# Altium integrated library Linear Technology Power Management LED Driver ICs.IntLib: 490 symbols (part 39 of 48)
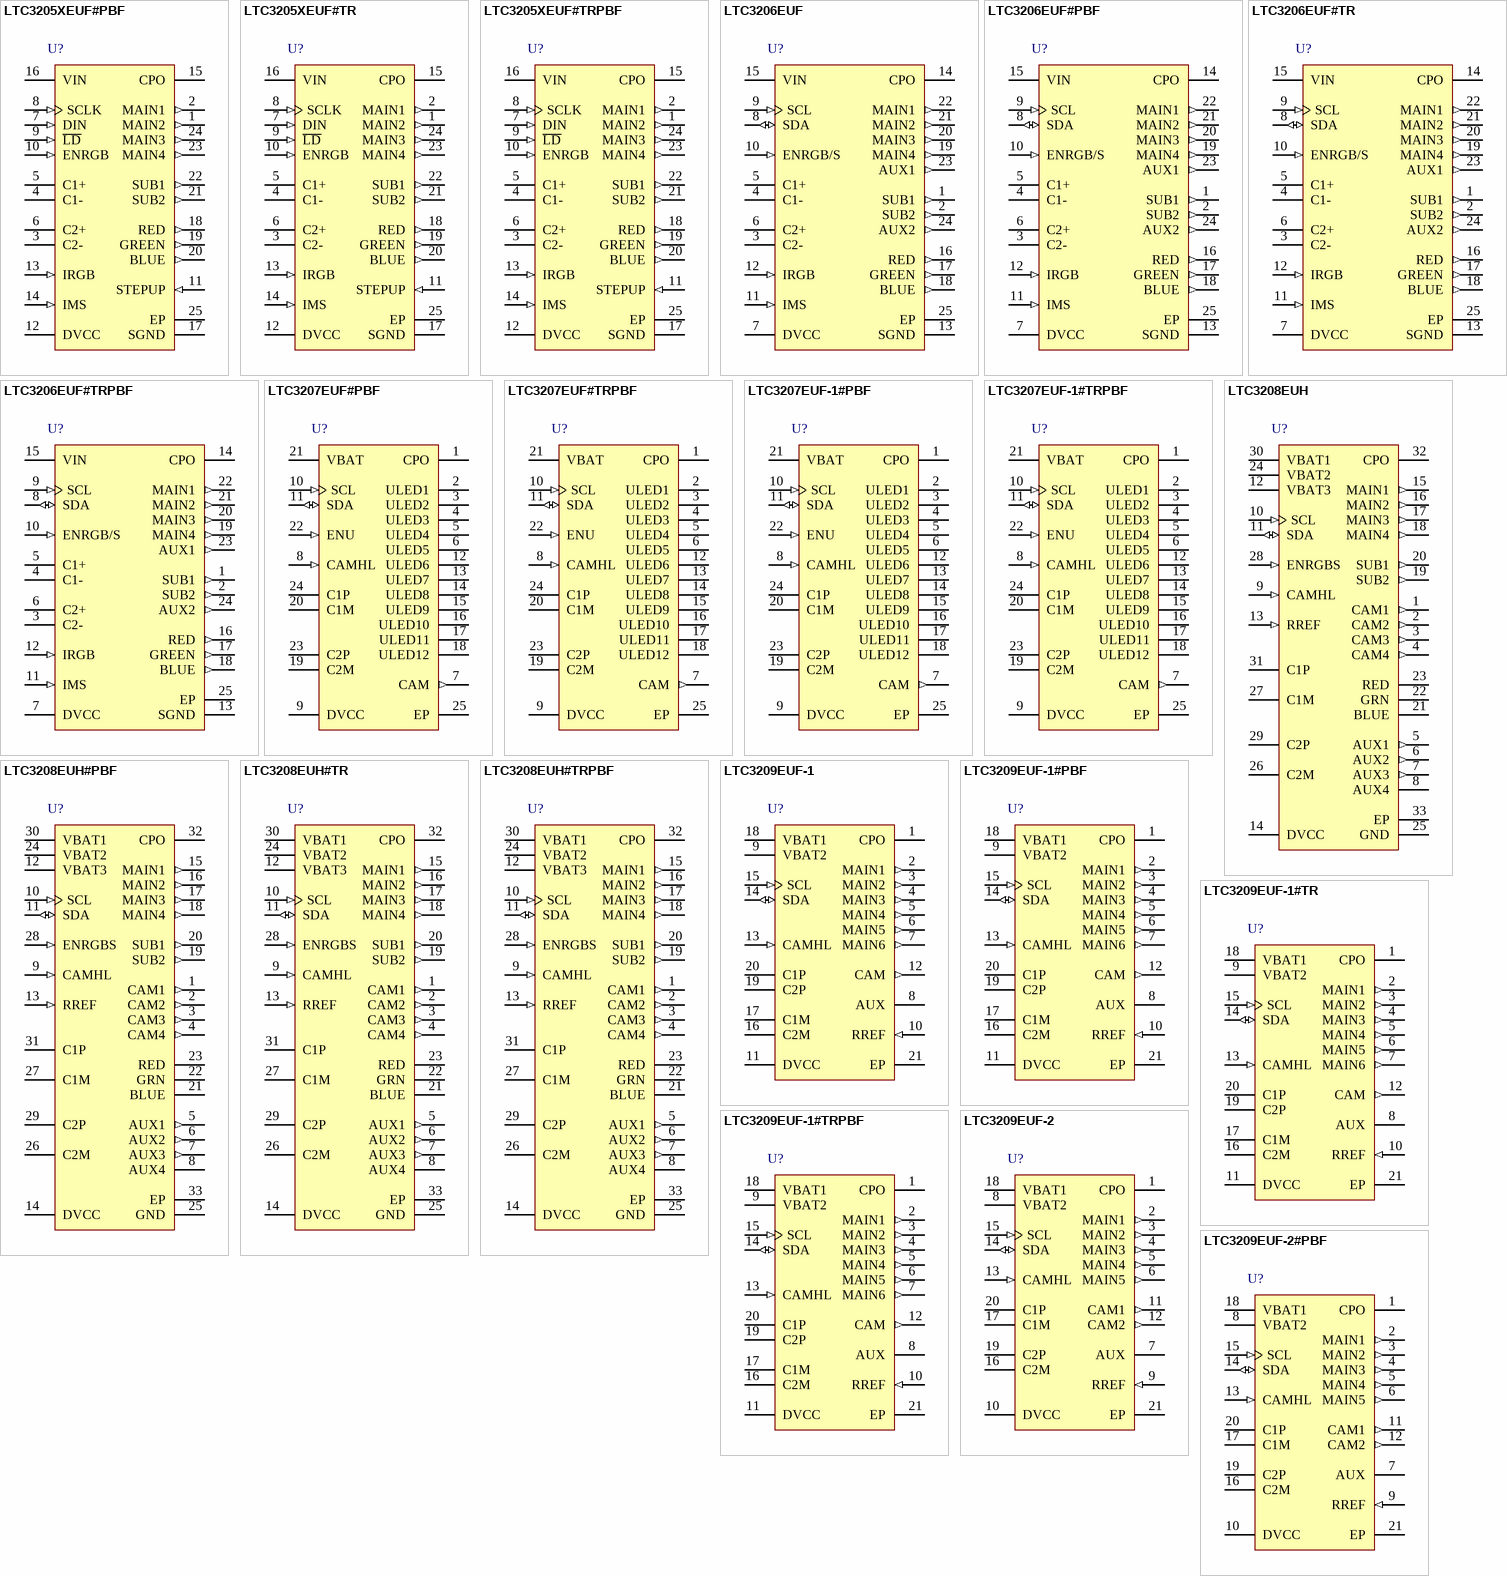
[diagram p58: symbols LTC3205XEUF#PBF to LTC3209EUF-2#PBF]

## LTC3206EUF#TR
designator U?
Drives 6 Main LEDs, 4 Sub Display, 1 RGB, 2.8 to 4.5 V Vin, 4.5 V Vout MAX, 24-pin QFN (UF-24), -40 to 85 degC, Tape and Reel; Manufacturer: Linear Technology; PartNumber: LTC3206EUF#TR; Topology: Charge Pump, LED Driver; Vin Min(V): 2.8; PackageVersion: Rev. B, 02/2012; PackageReference: UF24; PackageDescription: 24-Pin Plastic QFN, Body 4 x 4 mm, Pitch 0.5 mm; Supplier 1: Digi-Key; Supplier Part Number 1: LTC3206EUF#TR-ND; Packing: Tape and Reel; RoHS: FALSE; Mounting Technology: Surface Mount; Code_JEDEC: MO-220; ComponentLink1Description: Manufacturer URL; ComponentLink1URL: http://www.linear.com/; ComponentLink2Description: Datasheet; ComponentLink2URL: http://cds.linear.com/docs/en/datasheet/3206f.pdf; ComponentLink3Description: Package Specification; ComponentLink3URL: http://cds.linear.com/docs/en/packaging/%28UF24%29%20QFN%2005-08-1697%20Rev%20B.pdf
footprint LT-UF-24_N (QFN, 24-Leads, Body 4.1x4.1mm, Pitch 0.5mm, Thermal Pad 2.45x2.45mm, IPC Medium Density)
footprint LT-UF-24_L (QFN, 24-Leads, Body 4.1x4.1mm, Pitch 0.5mm, Thermal Pad 2.45x2.45mm, IPC High Density)
footprint LT-UF-24_M (QFN, 24-Leads, Body 4.1x4.1mm, Pitch 0.5mm, Thermal Pad 2.45x2.45mm, IPC Low Density)
pins: 1 SUB1 (out) "Current Source Outputs for the SUB Display White LEDs. The current for the SUB display is controlled by the resistor on the IMS pin.The LEDs on the SUB display can be set to exponentially increasing brightness levels from 0.(See Datasheet)", 2 SUB2 (out) "Current Source Outputs for the SUB Display White LEDs. The current for the SUB display is controlled by the resistor on the IMS pin.The LEDs on the SUB display can be set to exponentially increasing brightness levels from 0.(See Datasheet)", 3 C2- "Charge Pump Flying Capacitor Pins. A 2.2uF X7R or X5R ceramic capacitor should be connected from C1+ to C1- and another from C2+ to C2-.", 4 C1- "Charge Pump Flying Capacitor Pins. A 2.2uF X7R or X5R ceramic capacitor should be connected from C1+ to C1- and another from C2+ to C2-.", 5 C1+ "Charge Pump Flying Capacitor Pins. A 2.2uF X7R or X5R ceramic capacitor should be connected from C1+ to C1- and another from C2+ to C2-.", 6 C2+ "Charge Pump Flying Capacitor Pins. A 2.2uF X7R or X5R ceramic capacitor should be connected from C1+ to C1- and another from C2+ to C2-.", 7 DVCC (power) "This pin sets the logic reference level of the SDA, SCL and ENRGB/S pins.", 8 SDA (io) "Input Data for the I2C Serial Port. Serial data is shifted in one bit per clock to control the LTC3206 (see Figures 3 and 4). The logic level for SDA is referenced to DVCC.", 9 SCL (in) "Clock Input for the I2C Serial Port (see Figures 3 and 4). The logic level for SCL is referenced to DVCC.", 10 ENRGB/S (in) "This pin is used to enable and disable either the RED, GREEN and BLUE current sources or the SUB display depending on which is programmed to respond via the I2C port. Once ENRGB/S is brought high, the LTC3206 illuminates the (See Datasheet)", 11 IMS (in) "This pin controls the maximum amount of LED current in both the MAIN and SUB LED displays. The IMS pin servos to 0.6V when there is a resistor to ground. The full scale (100%) currents in the MAIN and SUB display LEDs will (See Datasheet)", 12 IRGB (in) "This pin controls the amount of LED current at the RED, GREEN and BLUE LED pins. The IRGB pin servos to 0.6V when there is a resistor to ground. The current in the RED, GREEN and BLUE LEDs will be 400 times the current at (See Datasheet)", 13 SGND (power) "Ground for the control logic. This pin should be connected directly to a low impedance ground plane.", 14 CPO (power) "Output of the Charge Pump. This output should be used to power white, blue and "ture" green LEDs. Red LEDs can be powered from VIN or CPO. An X5R or X7R low impedance (ceramic) 2.2uF charge storage capacitor is requi(See Datasheet)", 15 VIN (power) "Supply Voltage for the Charge Pump. The VIN pin should be connected directly to the battery and bypassed with a 2.2uF X5R or X7R ceramic capacitor.", 16 RED (out) "Current Source Outputs for the RGB Illuminator LEDs. The currents for the RGB LEDs are controlled by the resistor on the IRGB pin. The RGB LEDs can independently be set to any duty cycle from 0/15 through 15/15 under (See Datasheet)", 17 GREEN (out) "Current Source Outputs for the RGB Illuminator LEDs. The currents for the RGB LEDs are controlled by the resistor on the IRGB pin. The RGB LEDs can independently be set to any duty cycle from 0/15 through 15/15 under (See Datasheet)", 18 BLUE (out) "Current Source Outputs for the RGB Illuminator LEDs. The currents for the RGB LEDs are controlled by the resistor on the IRGB pin. The RGB LEDs can independently be set to any duty cycle from 0/15 through 15/15 under (See Datasheet)", 19 MAIN4 (out) "Current Source Outputs for the Main Display White LEDs. The current for the main display is controlled by the resistor on the IMS pin. The LEDs on the MAIN display can be set to 16 exponentially increasing brightness steps (See Datasheet)", 20 MAIN3 (out) "Current Source Outputs for the Main Display White LEDs. The current for the main display is controlled by the resistor on the IMS pin. The LEDs on the MAIN display can be set to 16 exponentially increasing brightness steps (See Datasheet)", 21 MAIN2 (out) "Current Source Outputs for the Main Display White LEDs. The current for the main display is controlled by the resistor on the IMS pin. The LEDs on the MAIN display can be set to 16 exponentially increasing brightness steps (See Datasheet)", 22 MAIN1 (out) "Current Source Outputs for the Main Display White LEDs. The current for the main display is controlled by the resistor on the IMS pin. The LEDs on the MAIN display can be set to 16 exponentially increasing brightness steps (See Datasheet)", 23 AUX1 (out) "Current source outputs for the auxiliary white LEDs. The auxiliary current sources can be individually assigned to be either MAIN display or SUB display LEDs via the I2C serial port. When either AUX1 and/ or AUX2 are (See Datasheet)", 24 AUX2 (out) "Current source outputs for the auxiliary white LEDs. The auxiliary current sources can be individually assigned to be either MAIN display or SUB display LEDs via the I2C serial port. When either AUX1 and/ or AUX2 are (See Datasheet)", 25 EP (power) "Power Ground for the Charge Pump. This pin should be connected directly to a low impedance ground plane."

## LTC3206EUF#TRPBF
designator U?
Drives 6 Main LEDs, 4 Sub Display, 1 RGB, 2.8 to 4.5 V Vin, 4.5 V Vout MAX, 24-pin QFN (UF-24), -40 to 85 degC, Pb-Free, Tape and Reel; Manufacturer: Linear Technology; PartNumber: LTC3206EUF#TRPBF; Topology: Charge Pump, LED Driver; Vin Min(V): 2.8; PackageVersion: Rev. B, 02/2012; PackageReference: UF24; PackageDescription: 24-Pin Plastic QFN, Body 4 x 4 mm, Pitch 0.5 mm; Supplier 1: Digi-Key; Supplier Part Number 1: LTC3206EUF#TRPBF-ND; Packing: Tape and Reel; RoHS: TRUE; Mounting Technology: Surface Mount; Code_JEDEC: MO-220; ComponentLink1Description: Manufacturer URL; ComponentLink1URL: http://www.linear.com/; ComponentLink2Description: Datasheet; ComponentLink2URL: http://cds.linear.com/docs/en/datasheet/3206f.pdf; ComponentLink3Description: Package Specification; ComponentLink3URL: http://cds.linear.com/docs/en/packaging/%28UF24%29%20QFN%2005-08-1697%20Rev%20B.pdf
footprint LT-UF-24_N (QFN, 24-Leads, Body 4.1x4.1mm, Pitch 0.5mm, Thermal Pad 2.45x2.45mm, IPC Medium Density)
footprint LT-UF-24_L (QFN, 24-Leads, Body 4.1x4.1mm, Pitch 0.5mm, Thermal Pad 2.45x2.45mm, IPC High Density)
footprint LT-UF-24_M (QFN, 24-Leads, Body 4.1x4.1mm, Pitch 0.5mm, Thermal Pad 2.45x2.45mm, IPC Low Density)
pins: 1 SUB1 (out) "Current Source Outputs for the SUB Display White LEDs. The current for the SUB display is controlled by the resistor on the IMS pin.The LEDs on the SUB display can be set to exponentially increasing brightness levels from 0.(See Datasheet)", 2 SUB2 (out) "Current Source Outputs for the SUB Display White LEDs. The current for the SUB display is controlled by the resistor on the IMS pin.The LEDs on the SUB display can be set to exponentially increasing brightness levels from 0.(See Datasheet)", 3 C2- "Charge Pump Flying Capacitor Pins. A 2.2uF X7R or X5R ceramic capacitor should be connected from C1+ to C1- and another from C2+ to C2-.", 4 C1- "Charge Pump Flying Capacitor Pins. A 2.2uF X7R or X5R ceramic capacitor should be connected from C1+ to C1- and another from C2+ to C2-.", 5 C1+ "Charge Pump Flying Capacitor Pins. A 2.2uF X7R or X5R ceramic capacitor should be connected from C1+ to C1- and another from C2+ to C2-.", 6 C2+ "Charge Pump Flying Capacitor Pins. A 2.2uF X7R or X5R ceramic capacitor should be connected from C1+ to C1- and another from C2+ to C2-.", 7 DVCC (power) "This pin sets the logic reference level of the SDA, SCL and ENRGB/S pins.", 8 SDA (io) "Input Data for the I2C Serial Port. Serial data is shifted in one bit per clock to control the LTC3206 (see Figures 3 and 4). The logic level for SDA is referenced to DVCC.", 9 SCL (in) "Clock Input for the I2C Serial Port (see Figures 3 and 4). The logic level for SCL is referenced to DVCC.", 10 ENRGB/S (in) "This pin is used to enable and disable either the RED, GREEN and BLUE current sources or the SUB display depending on which is programmed to respond via the I2C port. Once ENRGB/S is brought high, the LTC3206 illuminates the (See Datasheet)", 11 IMS (in) "This pin controls the maximum amount of LED current in both the MAIN and SUB LED displays. The IMS pin servos to 0.6V when there is a resistor to ground. The full scale (100%) currents in the MAIN and SUB display LEDs will (See Datasheet)", 12 IRGB (in) "This pin controls the amount of LED current at the RED, GREEN and BLUE LED pins. The IRGB pin servos to 0.6V when there is a resistor to ground. The current in the RED, GREEN and BLUE LEDs will be 400 times the current at (See Datasheet)", 13 SGND (power) "Ground for the control logic. This pin should be connected directly to a low impedance ground plane.", 14 CPO (power) "Output of the Charge Pump. This output should be used to power white, blue and "ture" green LEDs. Red LEDs can be powered from VIN or CPO. An X5R or X7R low impedance (ceramic) 2.2uF charge storage capacitor is requi(See Datasheet)", 15 VIN (power) "Supply Voltage for the Charge Pump. The VIN pin should be connected directly to the battery and bypassed with a 2.2uF X5R or X7R ceramic capacitor.", 16 RED (out) "Current Source Outputs for the RGB Illuminator LEDs. The currents for the RGB LEDs are controlled by the resistor on the IRGB pin. The RGB LEDs can independently be set to any duty cycle from 0/15 through 15/15 under (See Datasheet)", 17 GREEN (out) "Current Source Outputs for the RGB Illuminator LEDs. The currents for the RGB LEDs are controlled by the resistor on the IRGB pin. The RGB LEDs can independently be set to any duty cycle from 0/15 through 15/15 under (See Datasheet)", 18 BLUE (out) "Current Source Outputs for the RGB Illuminator LEDs. The currents for the RGB LEDs are controlled by the resistor on the IRGB pin. The RGB LEDs can independently be set to any duty cycle from 0/15 through 15/15 under (See Datasheet)", 19 MAIN4 (out) "Current Source Outputs for the Main Display White LEDs. The current for the main display is controlled by the resistor on the IMS pin. The LEDs on the MAIN display can be set to 16 exponentially increasing brightness steps (See Datasheet)", 20 MAIN3 (out) "Current Source Outputs for the Main Display White LEDs. The current for the main display is controlled by the resistor on the IMS pin. The LEDs on the MAIN display can be set to 16 exponentially increasing brightness steps (See Datasheet)", 21 MAIN2 (out) "Current Source Outputs for the Main Display White LEDs. The current for the main display is controlled by the resistor on the IMS pin. The LEDs on the MAIN display can be set to 16 exponentially increasing brightness steps (See Datasheet)", 22 MAIN1 (out) "Current Source Outputs for the Main Display White LEDs. The current for the main display is controlled by the resistor on the IMS pin. The LEDs on the MAIN display can be set to 16 exponentially increasing brightness steps (See Datasheet)", 23 AUX1 (out) "Current source outputs for the auxiliary white LEDs. The auxiliary current sources can be individually assigned to be either MAIN display or SUB display LEDs via the I2C serial port. When either AUX1 and/ or AUX2 are (See Datasheet)", 24 AUX2 (out) "Current source outputs for the auxiliary white LEDs. The auxiliary current sources can be individually assigned to be either MAIN display or SUB display LEDs via the I2C serial port. When either AUX1 and/ or AUX2 are (See Datasheet)", 25 EP (power) "Power Ground for the Charge Pump. This pin should be connected directly to a low impedance ground plane."

## LTC3207EUF#PBF
designator U?
600 mA Universal Multi-Output LED / CAM Driver, 2.9 to 5.5 V Vin, 4.5 V Vout MAX, 24-pin QFN (UF-24), -40 to 85 degC, Pb-Free; Manufacturer: Linear Technology; PartNumber: LTC3207EUF#PBF; Topology: Charge Pump, LED Driver; Vin Min(V): 2.9; DatasheetVersion: Rev. C; PackageVersion: Rev. B, 02/2012; PackageReference: UF24; PackageDescription: 24-Pin Plastic QFN, Body 4 x 4 mm, Pitch 0.5 mm; Supplier 1: Digi-Key; Supplier Part Number 1: LTC3207EUF#PBF-ND; Supplier 2: Newark; Supplier Part Number 2: 56M7382; RoHS: TRUE; Mounting Technology: Surface Mount; Code_JEDEC: MO-220; ComponentLink1Description: Manufacturer URL; ComponentLink1URL: http://www.linear.com/; ComponentLink2Description: Datasheet; ComponentLink2URL: http://cds.linear.com/docs/en/datasheet/3207fc.pdf; ComponentLink3Description: Package Specification; ComponentLink3URL: http://cds.linear.com/docs/en/packaging/%28UF24%29%20QFN%2005-08-1697%20Rev%20B.pdf
footprint LT-UF-24_N (QFN, 24-Leads, Body 4.1x4.1mm, Pitch 0.5mm, Thermal Pad 2.45x2.45mm, IPC Medium Density)
footprint LT-UF-24_L (QFN, 24-Leads, Body 4.1x4.1mm, Pitch 0.5mm, Thermal Pad 2.45x2.45mm, IPC High Density)
footprint LT-UF-24_M (QFN, 24-Leads, Body 4.1x4.1mm, Pitch 0.5mm, Thermal Pad 2.45x2.45mm, IPC Low Density)
pins: 1 CPO (power) "Output of the Charge Pump. Used to power all LEDs. A 4.7uF X5R or X7R ceramic capacitor should  be connected to ground.", 2 ULED1 (oc) "Current Source Outputs for Driving LEDs. The LED current can be set from 0mA to 27.5mA in 64 steps via software control and internal 6-bit linear DAC. Each output can be disabled by setting the associated data register REG1 (See Datasheet)", 3 ULED2 (oc) "Current Source Outputs for Driving LEDs. The LED current can be set from 0mA to 27.5mA in 64 steps via software control and internal 6-bit linear DAC. Each output can be disabled by setting the associated data register REG1 (See Datasheet)", 4 ULED3 (oc) "Current Source Outputs for Driving LEDs. The LED current can be set from 0mA to 27.5mA in 64 steps via software control and internal 6-bit linear DAC. Each output can be disabled by setting the associated data register REG1 (See Datasheet)", 5 ULED4 (oc) "Current Source Outputs for Driving LEDs. The LED current can be set from 0mA to 27.5mA in 64 steps via software control and internal 6-bit linear DAC. Each output can be disabled by setting the associated data register REG1 (See Datasheet)", 6 ULED5 (oc) "Current Source Outputs for Driving LEDs. The LED current can be set from 0mA to 27.5mA in 64 steps via software control and internal 6-bit linear DAC. Each output can be disabled by setting the associated data register REG1 (See Datasheet)", 7 CAM (out) "Current Source Output for the CAM Display White LED. The LED on the CAM display can be set from 0mA to 425mA in 16 steps via software control and internal 4-bit linear DAC. Two 4-bit registers are available. One is used to (See Datasheet)", 8 CAMHL (in) "Selects CAM high register when asserted high and CAM low register when low. The high to low transition automatically resets the charge pump mode to 1x. The logic level for CAMHL is referenced to DVCC. If unused, the pin (See Datasheet)", 9 DVCC (power) "Supply Voltage for All Digital I/O Lines. This pin sets the logic reference level of the device. DVCC will reset the data registers when set below the undervoltage lockout threshold which is the recommended method for (See Datasheet)", 10 SCL (in) "I2C Clock Input. The logic-level for SCL is referenced to DVCC.", 11 SDA (io) "Input Data for the Serial Port. Serial data is shifted in one bit per clock to control the device. The logic-level is referenced to DVCC.", 12 ULED6 (oc) "Current Source Outputs for Driving LEDs. The LED current can be set from 0mA to 27.5mA in 64 steps via software control and internal 6-bit linear DAC. Each output can be disabled by setting the associated data register REG1 (See Datasheet)", 13 ULED7 (oc) "Current Source Outputs for Driving LEDs. The LED current can be set from 0mA to 27.5mA in 64 steps via software control and internal 6-bit linear DAC. Each output can be disabled by setting the associated data register REG1 (See Datasheet)", 14 ULED8 (oc) "Current Source Outputs for Driving LEDs. The LED current can be set from 0mA to 27.5mA in 64 steps via software control and internal 6-bit linear DAC. Each output can be disabled by setting the associated data register REG1 (See Datasheet)", 15 ULED9 (oc) "Current Source Outputs for Driving LEDs. The LED current can be set from 0mA to 27.5mA in 64 steps via software control and internal 6-bit linear DAC. Each output can be disabled by setting the associated data register REG1 (See Datasheet)", 16 ULED10 (oc) "Current Source Outputs for Driving LEDs. The LED current can be set from 0mA to 27.5mA in 64 steps via software control and internal 6-bit linear DAC. Each output can be disabled by setting the associated data register REG1 (See Datasheet)", 17 ULED11 (oc) "Current Source Outputs for Driving LEDs. The LED current can be set from 0mA to 27.5mA in 64 steps via software control and internal 6-bit linear DAC. Each output can be disabled by setting the associated data register REG1 (See Datasheet)", 18 ULED12 (oc) "Current Source Outputs for Driving LEDs. The LED current can be set from 0mA to 27.5mA in 64 steps via software control and internal 6-bit linear DAC. Each output can be disabled by setting the associated data register REG1 (See Datasheet)", 19 C2M "Charge Pump Flying Capacitor Pins. A 2.2uF X7R or X5R ceramic capacitor should be connected from C1P to C1M and C2P to C2M.", 20 C1M "Charge Pump Flying Capacitor Pins. A 2.2uF X7R or X5R ceramic capacitor should be connected from C1P to C1M and C2P to C2M.", 21 VBAT (power) "Supply Voltage for the Entire Device. This pin must be bypassed with a single 2.2uF low ESR ceramic capacitor.", 22 ENU (in) "Input. Used to enable or disable the preselected ULED outputs. When the pin is toggled from low (disable) to high (enable), the device illuminates the preselected LEDs. When ENU is controlling selected outputs and other (See Datasheet)", 23 C2P "Charge Pump Flying Capacitor Pins. A 2.2uF X7R or X5R ceramic capacitor should be connected from C1P to C1M and C2P to C2M.", 24 C1P "Charge Pump Flying Capacitor Pins. A 2.2uF X7R or X5R ceramic capacitor should be connected from C1P to C1M and C2P to C2M.", 25 EP (power) "Ground. The Exposed Pad must be soldered to PCB ground."

## LTC3207EUF#TRPBF
designator U?
600 mA Universal Multi-Output LED / CAM Driver, 2.9 to 5.5 V Vin, 4.5 V Vout MAX, 24-pin QFN (UF-24), -40 to 85 degC, Pb-Free, Tape and Reel; Manufacturer: Linear Technology; PartNumber: LTC3207EUF#TRPBF; Topology: Charge Pump, LED Driver; Vin Min(V): 2.9; DatasheetVersion: Rev. C; PackageVersion: Rev. B, 02/2012; PackageReference: UF24; PackageDescription: 24-Pin Plastic QFN, Body 4 x 4 mm, Pitch 0.5 mm; Supplier 1: Digi-Key; Supplier Part Number 1: LTC3207EUF#TRPBF-ND; Supplier 2: Newark; Supplier Part Number 2: 56M7383; Packing: Tape and Reel; RoHS: TRUE; Mounting Technology: Surface Mount; Code_JEDEC: MO-220; ComponentLink1Description: Manufacturer URL; ComponentLink1URL: http://www.linear.com/; ComponentLink2Description: Datasheet; ComponentLink2URL: http://cds.linear.com/docs/en/datasheet/3207fc.pdf; ComponentLink3Description: Package Specification; ComponentLink3URL: http://cds.linear.com/docs/en/packaging/%28UF24%29%20QFN%2005-08-1697%20Rev%20B.pdf
footprint LT-UF-24_N (QFN, 24-Leads, Body 4.1x4.1mm, Pitch 0.5mm, Thermal Pad 2.45x2.45mm, IPC Medium Density)
footprint LT-UF-24_L (QFN, 24-Leads, Body 4.1x4.1mm, Pitch 0.5mm, Thermal Pad 2.45x2.45mm, IPC High Density)
footprint LT-UF-24_M (QFN, 24-Leads, Body 4.1x4.1mm, Pitch 0.5mm, Thermal Pad 2.45x2.45mm, IPC Low Density)
pins: 1 CPO (power) "Output of the Charge Pump. Used to power all LEDs. A 4.7uF X5R or X7R ceramic capacitor should  be connected to ground.", 2 ULED1 (oc) "Current Source Outputs for Driving LEDs. The LED current can be set from 0mA to 27.5mA in 64 steps via software control and internal 6-bit linear DAC. Each output can be disabled by setting the associated data register REG1 (See Datasheet)", 3 ULED2 (oc) "Current Source Outputs for Driving LEDs. The LED current can be set from 0mA to 27.5mA in 64 steps via software control and internal 6-bit linear DAC. Each output can be disabled by setting the associated data register REG1 (See Datasheet)", 4 ULED3 (oc) "Current Source Outputs for Driving LEDs. The LED current can be set from 0mA to 27.5mA in 64 steps via software control and internal 6-bit linear DAC. Each output can be disabled by setting the associated data register REG1 (See Datasheet)", 5 ULED4 (oc) "Current Source Outputs for Driving LEDs. The LED current can be set from 0mA to 27.5mA in 64 steps via software control and internal 6-bit linear DAC. Each output can be disabled by setting the associated data register REG1 (See Datasheet)", 6 ULED5 (oc) "Current Source Outputs for Driving LEDs. The LED current can be set from 0mA to 27.5mA in 64 steps via software control and internal 6-bit linear DAC. Each output can be disabled by setting the associated data register REG1 (See Datasheet)", 7 CAM (out) "Current Source Output for the CAM Display White LED. The LED on the CAM display can be set from 0mA to 425mA in 16 steps via software control and internal 4-bit linear DAC. Two 4-bit registers are available. One is used to (See Datasheet)", 8 CAMHL (in) "Selects CAM high register when asserted high and CAM low register when low. The high to low transition automatically resets the charge pump mode to 1x. The logic level for CAMHL is referenced to DVCC. If unused, the pin (See Datasheet)", 9 DVCC (power) "Supply Voltage for All Digital I/O Lines. This pin sets the logic reference level of the device. DVCC will reset the data registers when set below the undervoltage lockout threshold which is the recommended method for (See Datasheet)", 10 SCL (in) "I2C Clock Input. The logic-level for SCL is referenced to DVCC.", 11 SDA (io) "Input Data for the Serial Port. Serial data is shifted in one bit per clock to control the device. The logic-level is referenced to DVCC.", 12 ULED6 (oc) "Current Source Outputs for Driving LEDs. The LED current can be set from 0mA to 27.5mA in 64 steps via software control and internal 6-bit linear DAC. Each output can be disabled by setting the associated data register REG1 (See Datasheet)", 13 ULED7 (oc) "Current Source Outputs for Driving LEDs. The LED current can be set from 0mA to 27.5mA in 64 steps via software control and internal 6-bit linear DAC. Each output can be disabled by setting the associated data register REG1 (See Datasheet)", 14 ULED8 (oc) "Current Source Outputs for Driving LEDs. The LED current can be set from 0mA to 27.5mA in 64 steps via software control and internal 6-bit linear DAC. Each output can be disabled by setting the associated data register REG1 (See Datasheet)", 15 ULED9 (oc) "Current Source Outputs for Driving LEDs. The LED current can be set from 0mA to 27.5mA in 64 steps via software control and internal 6-bit linear DAC. Each output can be disabled by setting the associated data register REG1 (See Datasheet)", 16 ULED10 (oc) "Current Source Outputs for Driving LEDs. The LED current can be set from 0mA to 27.5mA in 64 steps via software control and internal 6-bit linear DAC. Each output can be disabled by setting the associated data register REG1 (See Datasheet)", 17 ULED11 (oc) "Current Source Outputs for Driving LEDs. The LED current can be set from 0mA to 27.5mA in 64 steps via software control and internal 6-bit linear DAC. Each output can be disabled by setting the associated data register REG1 (See Datasheet)", 18 ULED12 (oc) "Current Source Outputs for Driving LEDs. The LED current can be set from 0mA to 27.5mA in 64 steps via software control and internal 6-bit linear DAC. Each output can be disabled by setting the associated data register REG1 (See Datasheet)", 19 C2M "Charge Pump Flying Capacitor Pins. A 2.2uF X7R or X5R ceramic capacitor should be connected from C1P to C1M and C2P to C2M.", 20 C1M "Charge Pump Flying Capacitor Pins. A 2.2uF X7R or X5R ceramic capacitor should be connected from C1P to C1M and C2P to C2M.", 21 VBAT (power) "Supply Voltage for the Entire Device. This pin must be bypassed with a single 2.2uF low ESR ceramic capacitor.", 22 ENU (in) "Input. Used to enable or disable the preselected ULED outputs. When the pin is toggled from low (disable) to high (enable), the device illuminates the preselected LEDs. When ENU is controlling selected outputs and other (See Datasheet)", 23 C2P "Charge Pump Flying Capacitor Pins. A 2.2uF X7R or X5R ceramic capacitor should be connected from C1P to C1M and C2P to C2M.", 24 C1P "Charge Pump Flying Capacitor Pins. A 2.2uF X7R or X5R ceramic capacitor should be connected from C1P to C1M and C2P to C2M.", 25 EP (power) "Ground. The Exposed Pad must be soldered to PCB ground."

## LTC3207EUF-1#PBF
designator U?
600 mA Universal Multi-Output LED / CAM Driver, 2.9 to 5.5 V Vin, 4.5 V Vout MAX, 24-pin QFN (UF-24), -40 to 85 degC, Pb-Free; Manufacturer: Linear Technology; PartNumber: LTC3207EUF-1#PBF; Topology: Charge Pump, LED Driver; Vin Min(V): 2.9; DatasheetVersion: Rev. C; PackageVersion: Rev. B, 02/2012; PackageReference: UF24; PackageDescription: 24-Pin Plastic QFN, Body 4 x 4 mm, Pitch 0.5 mm; Supplier 1: Digi-Key; Supplier Part Number 1: LTC3207EUF-1#PBF-ND; RoHS: TRUE; Mounting Technology: Surface Mount; Code_JEDEC: MO-220; ComponentLink1Description: Manufacturer URL; ComponentLink1URL: http://www.linear.com/; ComponentLink2Description: Datasheet; ComponentLink2URL: http://cds.linear.com/docs/en/datasheet/3207fc.pdf; ComponentLink3Description: Package Specification; ComponentLink3URL: http://cds.linear.com/docs/en/packaging/%28UF24%29%20QFN%2005-08-1697%20Rev%20B.pdf
footprint LT-UF-24_N (QFN, 24-Leads, Body 4.1x4.1mm, Pitch 0.5mm, Thermal Pad 2.45x2.45mm, IPC Medium Density)
footprint LT-UF-24_L (QFN, 24-Leads, Body 4.1x4.1mm, Pitch 0.5mm, Thermal Pad 2.45x2.45mm, IPC High Density)
footprint LT-UF-24_M (QFN, 24-Leads, Body 4.1x4.1mm, Pitch 0.5mm, Thermal Pad 2.45x2.45mm, IPC Low Density)
pins: 1 CPO (power) "Output of the Charge Pump. Used to power all LEDs. A 4.7uF X5R or X7R ceramic capacitor should  be connected to ground.", 2 ULED1 (oc) "Current Source Outputs for Driving LEDs. The LED current can be set from 0mA to 27.5mA in 64 steps via software control and internal 6-bit linear DAC. Each output can be disabled by setting the associated data register REG1 (See Datasheet)", 3 ULED2 (oc) "Current Source Outputs for Driving LEDs. The LED current can be set from 0mA to 27.5mA in 64 steps via software control and internal 6-bit linear DAC. Each output can be disabled by setting the associated data register REG1 (See Datasheet)", 4 ULED3 (oc) "Current Source Outputs for Driving LEDs. The LED current can be set from 0mA to 27.5mA in 64 steps via software control and internal 6-bit linear DAC. Each output can be disabled by setting the associated data register REG1 (See Datasheet)", 5 ULED4 (oc) "Current Source Outputs for Driving LEDs. The LED current can be set from 0mA to 27.5mA in 64 steps via software control and internal 6-bit linear DAC. Each output can be disabled by setting the associated data register REG1 (See Datasheet)", 6 ULED5 (oc) "Current Source Outputs for Driving LEDs. The LED current can be set from 0mA to 27.5mA in 64 steps via software control and internal 6-bit linear DAC. Each output can be disabled by setting the associated data register REG1 (See Datasheet)", 7 CAM (out) "Current Source Output for the CAM Display White LED. The LED on the CAM display can be set from 0mA to 425mA in 16 steps via software control and internal 4-bit linear DAC. Two 4-bit registers are available. One is used to (See Datasheet)", 8 CAMHL (in) "Selects CAM high register when asserted high and CAM low register when low. The high to low transition automatically resets the charge pump mode to 1x. The logic level for CAMHL is referenced to DVCC. If unused, the pin (See Datasheet)", 9 DVCC (power) "Supply Voltage for All Digital I/O Lines. This pin sets the logic reference level of the device. DVCC will reset the data registers when set below the undervoltage lockout threshold which is the recommended method for (See Datasheet)", 10 SCL (in) "I2C Clock Input. The logic-level for SCL is referenced to DVCC.", 11 SDA (io) "Input Data for the Serial Port. Serial data is shifted in one bit per clock to control the device. The logic-level is referenced to DVCC.", 12 ULED6 (oc) "Current Source Outputs for Driving LEDs. The LED current can be set from 0mA to 27.5mA in 64 steps via software control and internal 6-bit linear DAC. Each output can be disabled by setting the associated data register REG1 (See Datasheet)", 13 ULED7 (oc) "Current Source Outputs for Driving LEDs. The LED current can be set from 0mA to 27.5mA in 64 steps via software control and internal 6-bit linear DAC. Each output can be disabled by setting the associated data register REG1 (See Datasheet)", 14 ULED8 (oc) "Current Source Outputs for Driving LEDs. The LED current can be set from 0mA to 27.5mA in 64 steps via software control and internal 6-bit linear DAC. Each output can be disabled by setting the associated data register REG1 (See Datasheet)", 15 ULED9 (oc) "Current Source Outputs for Driving LEDs. The LED current can be set from 0mA to 27.5mA in 64 steps via software control and internal 6-bit linear DAC. Each output can be disabled by setting the associated data register REG1 (See Datasheet)", 16 ULED10 (oc) "Current Source Outputs for Driving LEDs. The LED current can be set from 0mA to 27.5mA in 64 steps via software control and internal 6-bit linear DAC. Each output can be disabled by setting the associated data register REG1 (See Datasheet)", 17 ULED11 (oc) "Current Source Outputs for Driving LEDs. The LED current can be set from 0mA to 27.5mA in 64 steps via software control and internal 6-bit linear DAC. Each output can be disabled by setting the associated data register REG1 (See Datasheet)", 18 ULED12 (oc) "Current Source Outputs for Driving LEDs. The LED current can be set from 0mA to 27.5mA in 64 steps via software control and internal 6-bit linear DAC. Each output can be disabled by setting the associated data register REG1 (See Datasheet)", 19 C2M "Charge Pump Flying Capacitor Pins. A 2.2uF X7R or X5R ceramic capacitor should be connected from C1P to C1M and C2P to C2M.", 20 C1M "Charge Pump Flying Capacitor Pins. A 2.2uF X7R or X5R ceramic capacitor should be connected from C1P to C1M and C2P to C2M.", 21 VBAT (power) "Supply Voltage for the Entire Device. This pin must be bypassed with a single 2.2uF low ESR ceramic capacitor.", 22 ENU (in) "Input. Used to enable or disable the preselected ULED outputs. When the pin is toggled from low (disable) to high (enable), the device illuminates the preselected LEDs. When ENU is controlling selected outputs and other (See Datasheet)", 23 C2P "Charge Pump Flying Capacitor Pins. A 2.2uF X7R or X5R ceramic capacitor should be connected from C1P to C1M and C2P to C2M.", 24 C1P "Charge Pump Flying Capacitor Pins. A 2.2uF X7R or X5R ceramic capacitor should be connected from C1P to C1M and C2P to C2M.", 25 EP (power) "Ground. The Exposed Pad must be soldered to PCB ground."

## LTC3207EUF-1#TRPBF
designator U?
600 mA Universal Multi-Output LED / CAM Driver, 2.9 to 5.5 V Vin, 4.5 V Vout MAX, 24-pin QFN (UF-24), -40 to 85 degC, Pb-Free, Tape and Reel; Manufacturer: Linear Technology; PartNumber: LTC3207EUF-1#TRPBF; Topology: Charge Pump, LED Driver; Vin Min(V): 2.9; DatasheetVersion: Rev. C; PackageVersion: Rev. B, 02/2012; PackageReference: UF24; PackageDescription: 24-Pin Plastic QFN, Body 4 x 4 mm, Pitch 0.5 mm; Supplier 1: Digi-Key; Supplier Part Number 1: LTC3207EUF-1#TRPBF-ND; Packing: Tape and Reel; RoHS: TRUE; Mounting Technology: Surface Mount; Code_JEDEC: MO-220; ComponentLink1Description: Manufacturer URL; ComponentLink1URL: http://www.linear.com/; ComponentLink2Description: Datasheet; ComponentLink2URL: http://cds.linear.com/docs/en/datasheet/3207fc.pdf; ComponentLink3Description: Package Specification; ComponentLink3URL: http://cds.linear.com/docs/en/packaging/%28UF24%29%20QFN%2005-08-1697%20Rev%20B.pdf
footprint LT-UF-24_N (QFN, 24-Leads, Body 4.1x4.1mm, Pitch 0.5mm, Thermal Pad 2.45x2.45mm, IPC Medium Density)
footprint LT-UF-24_L (QFN, 24-Leads, Body 4.1x4.1mm, Pitch 0.5mm, Thermal Pad 2.45x2.45mm, IPC High Density)
footprint LT-UF-24_M (QFN, 24-Leads, Body 4.1x4.1mm, Pitch 0.5mm, Thermal Pad 2.45x2.45mm, IPC Low Density)
pins: 1 CPO (power) "Output of the Charge Pump. Used to power all LEDs. A 4.7uF X5R or X7R ceramic capacitor should  be connected to ground.", 2 ULED1 (oc) "Current Source Outputs for Driving LEDs. The LED current can be set from 0mA to 27.5mA in 64 steps via software control and internal 6-bit linear DAC. Each output can be disabled by setting the associated data register REG1 (See Datasheet)", 3 ULED2 (oc) "Current Source Outputs for Driving LEDs. The LED current can be set from 0mA to 27.5mA in 64 steps via software control and internal 6-bit linear DAC. Each output can be disabled by setting the associated data register REG1 (See Datasheet)", 4 ULED3 (oc) "Current Source Outputs for Driving LEDs. The LED current can be set from 0mA to 27.5mA in 64 steps via software control and internal 6-bit linear DAC. Each output can be disabled by setting the associated data register REG1 (See Datasheet)", 5 ULED4 (oc) "Current Source Outputs for Driving LEDs. The LED current can be set from 0mA to 27.5mA in 64 steps via software control and internal 6-bit linear DAC. Each output can be disabled by setting the associated data register REG1 (See Datasheet)", 6 ULED5 (oc) "Current Source Outputs for Driving LEDs. The LED current can be set from 0mA to 27.5mA in 64 steps via software control and internal 6-bit linear DAC. Each output can be disabled by setting the associated data register REG1 (See Datasheet)", 7 CAM (out) "Current Source Output for the CAM Display White LED. The LED on the CAM display can be set from 0mA to 425mA in 16 steps via software control and internal 4-bit linear DAC. Two 4-bit registers are available. One is used to (See Datasheet)", 8 CAMHL (in) "Selects CAM high register when asserted high and CAM low register when low. The high to low transition automatically resets the charge pump mode to 1x. The logic level for CAMHL is referenced to DVCC. If unused, the pin (See Datasheet)", 9 DVCC (power) "Supply Voltage for All Digital I/O Lines. This pin sets the logic reference level of the device. DVCC will reset the data registers when set below the undervoltage lockout threshold which is the recommended method for (See Datasheet)", 10 SCL (in) "I2C Clock Input. The logic-level for SCL is referenced to DVCC.", 11 SDA (io) "Input Data for the Serial Port. Serial data is shifted in one bit per clock to control the device. The logic-level is referenced to DVCC.", 12 ULED6 (oc) "Current Source Outputs for Driving LEDs. The LED current can be set from 0mA to 27.5mA in 64 steps via software control and internal 6-bit linear DAC. Each output can be disabled by setting the associated data register REG1 (See Datasheet)", 13 ULED7 (oc) "Current Source Outputs for Driving LEDs. The LED current can be set from 0mA to 27.5mA in 64 steps via software control and internal 6-bit linear DAC. Each output can be disabled by setting the associated data register REG1 (See Datasheet)", 14 ULED8 (oc) "Current Source Outputs for Driving LEDs. The LED current can be set from 0mA to 27.5mA in 64 steps via software control and internal 6-bit linear DAC. Each output can be disabled by setting the associated data register REG1 (See Datasheet)", 15 ULED9 (oc) "Current Source Outputs for Driving LEDs. The LED current can be set from 0mA to 27.5mA in 64 steps via software control and internal 6-bit linear DAC. Each output can be disabled by setting the associated data register REG1 (See Datasheet)", 16 ULED10 (oc) "Current Source Outputs for Driving LEDs. The LED current can be set from 0mA to 27.5mA in 64 steps via software control and internal 6-bit linear DAC. Each output can be disabled by setting the associated data register REG1 (See Datasheet)", 17 ULED11 (oc) "Current Source Outputs for Driving LEDs. The LED current can be set from 0mA to 27.5mA in 64 steps via software control and internal 6-bit linear DAC. Each output can be disabled by setting the associated data register REG1 (See Datasheet)", 18 ULED12 (oc) "Current Source Outputs for Driving LEDs. The LED current can be set from 0mA to 27.5mA in 64 steps via software control and internal 6-bit linear DAC. Each output can be disabled by setting the associated data register REG1 (See Datasheet)", 19 C2M "Charge Pump Flying Capacitor Pins. A 2.2uF X7R or X5R ceramic capacitor should be connected from C1P to C1M and C2P to C2M.", 20 C1M "Charge Pump Flying Capacitor Pins. A 2.2uF X7R or X5R ceramic capacitor should be connected from C1P to C1M and C2P to C2M.", 21 VBAT (power) "Supply Voltage for the Entire Device. This pin must be bypassed with a single 2.2uF low ESR ceramic capacitor.", 22 ENU (in) "Input. Used to enable or disable the preselected ULED outputs. When the pin is toggled from low (disable) to high (enable), the device illuminates the preselected LEDs. When ENU is controlling selected outputs and other (See Datasheet)", 23 C2P "Charge Pump Flying Capacitor Pins. A 2.2uF X7R or X5R ceramic capacitor should be connected from C1P to C1M and C2P to C2M.", 24 C1P "Charge Pump Flying Capacitor Pins. A 2.2uF X7R or X5R ceramic capacitor should be connected from C1P to C1M and C2P to C2M.", 25 EP (power) "Ground. The Exposed Pad must be soldered to PCB ground."

## LTC3208EUH
designator U?
High Current Software Configurable Multidisplay LED Controller, 2.9 to 4.5 V Vin, 5 V Vout MAX, 32-pin QFN (UH-32), -40 to 85 degC; Manufacturer: Linear Technology; PartNumber: LTC3208EUH; Topology: Charge Pump, LED Driver; Vin Min(V): 2.9; DatasheetVersion: Rev. A; PackageVersion: Rev. D, 06/2010; PackageReference: UH-32; PackageDescription: 32-Pin Plastic QFN, Body 5 x 5 mm, Pitch 0.5 mm; RoHS: FALSE; Mounting Technology: Surface Mount; Code_JEDEC: MO-220; ComponentLink1Description: Manufacturer URL; ComponentLink1URL: http://www.linear.com/; ComponentLink2Description: Datasheet; ComponentLink2URL: http://cds.linear.com/docs/en/datasheet/3208fa.pdf; ComponentLink3Description: Package Specification; ComponentLink3URL: http://cds.linear.com/docs/en/packaging/QFN_32_05-08-1693.pdf
footprint LT-UH-32_N (QFN, 32-Leads, Body 5.1x5.1mm, Pitch 0.5mm, Thermal Pad 3.45X3.45mm, IPC Medium Density)
footprint LT-UH-32_L (QFN, 32-Leads, Body 5.1x5.1mm, Pitch 0.5mm, Thermal Pad 3.45X3.45mm, IPC High Density)
footprint LT-UH-32_M (QFN, 32-Leads, Body 5.1x5.1mm, Pitch 0.5mm, Thermal Pad 3.45X3.45mm, IPC Low Density)
pins: 1 CAM1 (out) "Current Source Output for the CAM Display White LED. The LEDs on the CAM display can be set from 0mA to 102mA in 16 steps via software control and internal 4-bit linear DAC. Two 4-bit registers are available. One is used to (See Datasheet)", 2 CAM2 (out) "Current Source Output for the CAM Display White LED. The LEDs on the CAM display can be set from 0mA to 102mA in 16 steps via software control and internal 4-bit linear DAC. Two 4-bit registers are available. One is used to (See Datasheet)", 3 CAM3 (out) "Current Source Output for the CAM Display White LED. The LEDs on the CAM display can be set from 0mA to 102mA in 16 steps via software control and internal 4-bit linear DAC. Two 4-bit registers are available. One is used to (See Datasheet)", 4 CAM4 (out) "Current Source Output for the CAM Display White LED. The LEDs on the CAM display can be set from 0mA to 102mA in 16 steps via software control and internal 4-bit linear DAC. Two 4-bit registers are available. One is used to (See Datasheet)", 5 AUX1 (out) "Current Source Output for the AUX Display White LED. When used as a separate display, the LED current sources of the AUX display can be set from 0mA to 26mA in 16 steps via software control and internal 4-bit linear DAC. In (See Datasheet)", 6 AUX2 (out) "Current Source Output for the AUX Display White LED. When used as a separate display, the LED current sources of the AUX display can be set from 0mA to 26mA in 16 steps via software control and internal 4-bit linear DAC. In (See Datasheet)", 7 AUX3 (out) "Current Source Output for the AUX Display White LED. When used as a separate display, the LED current sources of the AUX display can be set from 0mA to 26mA in 16 steps via software control and internal 4-bit linear DAC. In (See Datasheet)", 8 AUX4 (oc) "Current Source Output for the AUX Display White LED. When used as a separate display, the LED current sources of the AUX display can be set from 0mA to 26mA in 16 steps via software control and internal 4-bit linear DAC. In (See Datasheet)", 9 CAMHL (in) "Logic Input. Selects CAM high register when asserted High and CAM Low Register when low. The high to low transition automatically resets the charge pump mode to 1x.", 10 SCL (in) "I2C Clock Input. The logic level for SCL is referenced to DVCC.", 11 SDA (io) "I2C Data Input for the Serial Port. Serial data is shifted in one bit per clock to control the LTC3208. The logic level is referenced to DVCC.", 12 VBAT3 (power) "Supply Voltage for the Entire Device. Three separate pins are used to isolate the charge pump from the analog sections to reduce noise. All pins must be connected together externally and bypassed with a 4.7uF low ESR ceramic (See Datasheet)", 13 RREF (in) ""Controls the Maximum Amount of LED Current for all Displays. The RREF voltage is 1.215V. An external resistor to ground sets the reference currents for all display DACs and support circuits. Since this resistor", 14 DVCC (power) "Supply Voltage for all Digital I/O Lines. This pin sets the logic reference level of the LTC3208. A UVLO circuit on the DVCC pin forces all registers to all 0s whenever DVCC is below the DVCC UVLO threshold. Bypass to GND (See Datasheet)", 15 MAIN1 (out) "Current Source Output for the MAIN Display White LED. The LEDs on the MAIN display can be set from 0uA to 27.5mA in 256 steps via software control and internal 8-bit linear DAC. Each output can be disabled externally by (See Datasheet)", 16 MAIN2 (out) "Current Source Output for the MAIN Display White LED. The LEDs on the MAIN display can be set from 0uA to 27.5mA in 256 steps via software control and internal 8-bit linear DAC. Each output can be disabled externally by (See Datasheet)", 17 MAIN3 (out) "Current Source Output for the MAIN Display White LED. The LEDs on the MAIN display can be set from 0uA to 27.5mA in 256 steps via software control and internal 8-bit linear DAC. Each output can be disabled externally by (See Datasheet)", 18 MAIN4 (out) "Current Source Output for the MAIN Display White LED. The LEDs on the MAIN display can be set from 0uA to 27.5mA in 256 steps via software control and internal 8-bit linear DAC. Each output can be disabled externally by (See Datasheet)", 19 SUB2 (out) "Current Source Output for the SUB Display White LED. The LEDs on the SUB display can be set from 0uA to 27.5mA in 256 steps via software control and an internal 8-bit linear DAC. Each output can be disabled externally by (See Datasheet)", 20 SUB1 (out) "Current Source Output for the SUB Display White LED. The LEDs on the SUB display can be set from 0uA to 27.5mA in 256 steps via software control and an internal 8-bit linear DAC. Each output can be disabled externally by (See Datasheet)", 21 BLUE (oc) "Current Source Output for the RGB Illuminator LED. The RGB currents can be independently set via the serial port. Currents up to 27mA can be programmed over 16 steps via the three internal 4-bit exponential DACs. These (See Datasheet)", 22 GRN (oc) "Current Source Output for the RGB Illuminator LED. The RGB currents can be independently set via the serial port. Currents up to 27mA can be programmed over 16 steps via the three internal 4-bit exponential DACs. These (See Datasheet)", 23 RED (oc) "Current Source Output for the RGB Illuminator LED. The RGB currents can be independently set via the serial port. Currents up to 27mA can be programmed over 16 steps via the three internal 4-bit exponential DACs. These (See Datasheet)", 24 VBAT2 (power) "Supply Voltage for the Entire Device. Three separate pins are used to isolate the charge pump from the analog sections to reduce noise. All pins must be connected together externally and bypassed with a 4.7uF low ESR ceramic (See Datasheet)", 25 GND (power) "System Ground. Connect Pin 25 and exposed pad Pin 33 directly to a low impedance ground plane.", 26 C2M "Charge Pump Flying Capacitor Pin. 2.2uF X7R or X5R ceramic capacitors should be connected from C1P to C1M and C2P to C2M.", 27 C1M "Charge Pump Flying Capacitor Pin. 2.2uF X7R or X5R ceramic capacitors should be connected from C1P to C1M and C2P to C2M.", 28 ENRGBS (in) "Logic Input. This pin is normally high and is used to enable or disable the RED, GREEN and BLUE LEDs or the SUB LEDs. The selection between RGB or SUB is made via an internal programmable bit. When the pin is toggled from (See Datasheet)", 29 C2P "Charge Pump Flying Capacitor Pin. 2.2uF X7R or X5R ceramic capacitors should be connected from C1P to C1M and C2P to C2M.", 30 VBAT1 (power) "Supply Voltage for the Entire Device. Three separate pins are used to isolate the charge pump from the analog sections to reduce noise. All pins must be connected together externally and bypassed with a 4.7uF low ESR ceramic (See Datasheet)", 31 C1P "Charge Pump Flying Capacitor Pin. 2.2uF X7R or X5R ceramic capacitors should be connected from C1P to C1M and C2P to C2M.", 32 CPO (power) "Output of the Charge Pump Used to Power All LEDs. A 4.7uF X5R or X7R ceramic capacitor should be connected to ground.", 33 EP (power) "System Ground. Connect Pin 25 and exposed pad Pin 33 directly to a low impedance ground plane."